# EAGLE library part AD7687BRMZ (library HEXABITZ_ICs)
16-Bit, 1.5 LSB INL, 250 kSPS PulSAR Differential ADC in MSOP
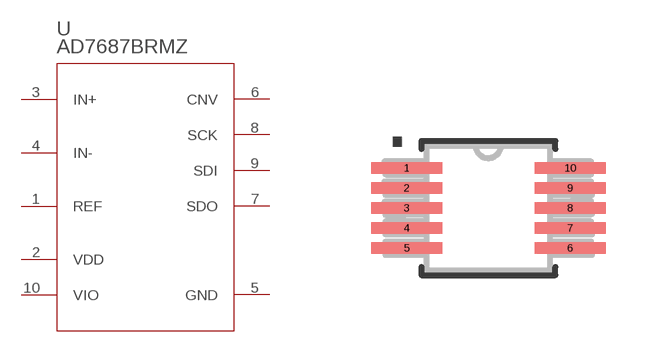
[diagram p29: symbol with the pads of RM_10; footprint RM_10]

Designator prefix U

## AD7687BRMZ (MANUFACTURER_PART_NUMBER: AD7687BRMZ; MFN: Analog Devices; MPN: AD7687BRMZ; OCTOPART_URL: https://octopart.com/ad7687brmz-analog+devices-402423?r=sp&s=nGWkWf3SRRmAtqyGurz69w; VENDOR: Vendor)  [RM_10]
1  REF  pas
2  VDD  pwr
3  IN+  pas
4  IN-  pas
5  GND  pas
6  CNV  pas
7  SDO  pas
8  SCK  pas
9  SDI  pas
10  VIO  pwr

## Footprint RM_10 (pad centres in mm)
smd 1.778 x 0.279: 1 -2.045,1; 2 -2.045,0.5; 3 -2.045,0; 4 -2.045,-0.5; 5 -2.045,-1; 6 2.045,-1; 7 2.045,-0.5; 8 2.045,0; 9 2.045,0.5; 10 2.045,1